# EAGLE library part AD9835 (library analogdevices-dds)
CMOS Complete DDS Clock Rate up to 50 MHz Serial Interface
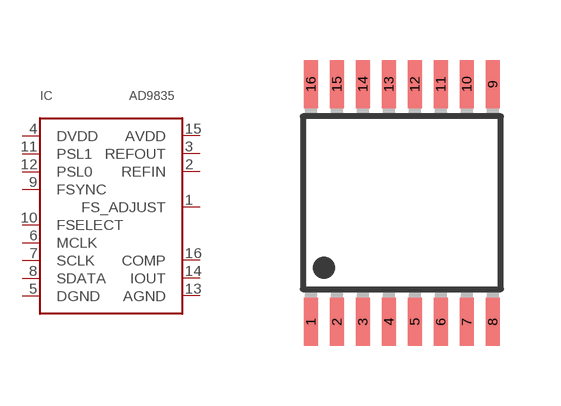
[diagram p2: symbol with the pads of TSSOP16; footprint TSSOP16]

Designator prefix IC

## AD9835  [TSSOP16]
1  FS_ADJUST
2  REFIN
3  REFOUT
4  DVDD  pwr
5  DGND  pwr
6  MCLK
7  SCLK
8  SDATA
9  FSYNC
10  FSELECT
11  PSL1
12  PSL0
13  AGND  pwr
14  IOUT
15  AVDD  pwr
16  COMP

## Footprint TSSOP16 (pad centres in mm)
smd 0.35 x 1.2: 1 -2.275,-2.97; 2 -1.625,-2.97; 3 -0.975,-2.97; 4 -0.325,-2.97; 5 0.325,-2.97; 6 0.975,-2.97; 7 1.625,-2.97; 8 2.275,-2.97; 9 2.275,2.97; 10 1.625,2.97; 11 0.975,2.97; 12 0.325,2.97; 13 -0.325,2.97; 14 -0.975,2.97; 15 -1.625,2.97; 16 -2.275,2.97